# Altium integrated library My_Inductors.IntLib: 2 symbols
Pins are listed as number, name and electrical type; pins without a type are passive.

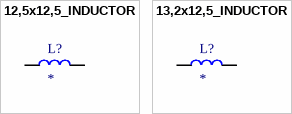
[diagram p0: symbols 12,5x12,5_INDUCTOR to 13,2x12,5_INDUCTOR]

## 12,5x12,5_INDUCTOR
designator L?
footprint 12,5x12,5_INDUCTOR
pins: 1, 2

## 13,2x12,5_INDUCTOR
designator L?
footprint 13,2x12,5_INDUCTOR (Precision Wire Wound Inductor, 2-Leads, Body 13,20x12,50mm, IPC Low Density)
pins: 1, 2